# Altium integrated library Notecarrier AF.IntLib: 77 symbols
Pins are listed as number, name and electrical type; pins without a type are passive.

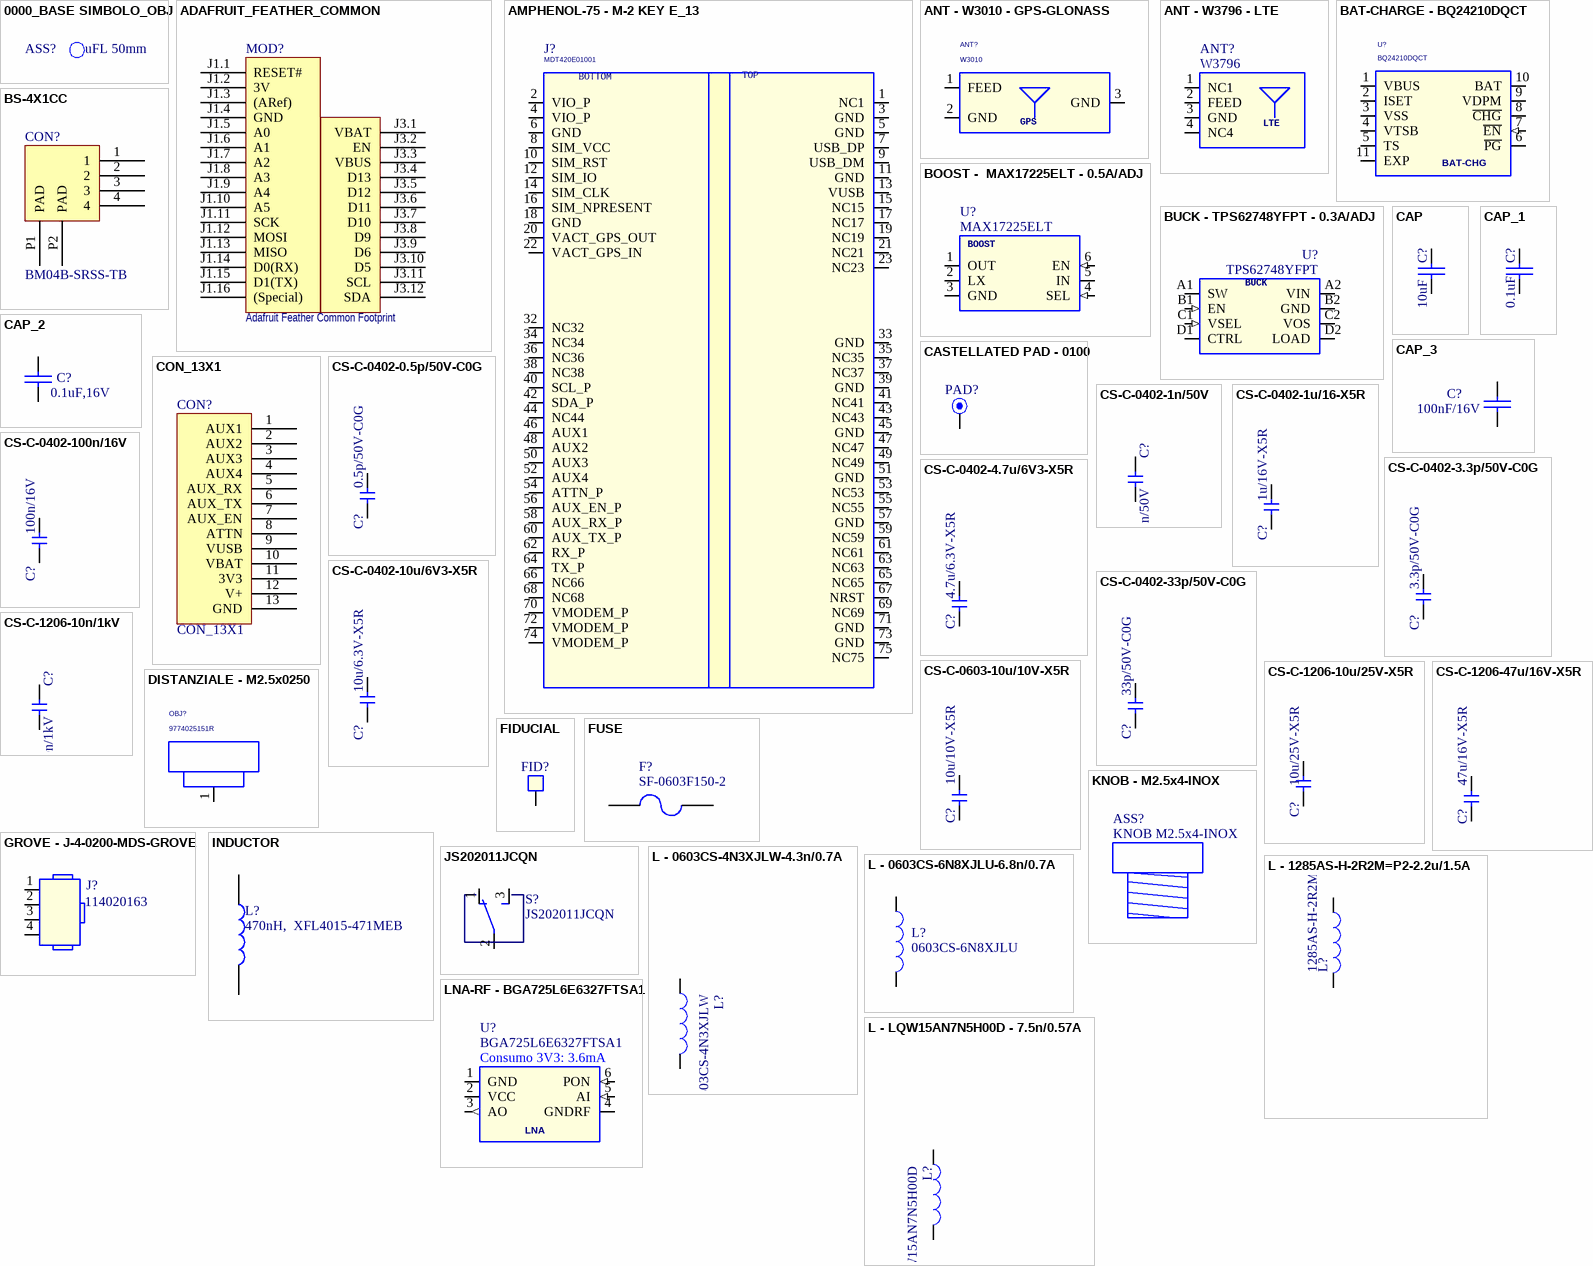
[diagram p0: symbols 0000_BASE SIMBOLO_OBJ to LNA-RF - BGA725L6E6327FTSA1]

## 0000_BASE SIMBOLO_OBJ
designator ASS?, comment uFL 50mm
CAVO COAX uFl-uFl 415-0086-050 HIROSE CINCH CONNECTIVITY SOLUTIONS JOHNSON; ROOM: GPS ANTENNA

## ADAFRUIT_FEATHER_COMMON
designator MOD?, comment Adafruit Feather Common Footprint
Typical Adafruit Feather Pinout
footprint ADAFRUIT_FEATHER_COMMON (Common (Typical) Feather Footprint)
pins: J1.1 RESET#, J1.2 3V, J1.3 (ARef), J1.4 GND, J1.5 A0, J1.6 A1, J1.7 A2, J1.8 A3, J1.9 A4, J1.10 A5, J1.11 SCK, J1.12 MOSI, J1.13 MISO, J1.14 D0(RX), J1.15 D1(TX), J1.16 (Special), J3.1 VBAT, J3.2 EN, J3.3 VBUS, J3.4 D13, J3.5 D12, J3.6 D11, J3.7 D10, J3.8 D9, J3.9 D6, J3.10 D5, J3.11 SCL, J3.12 SDA

## AMPHENOL-75 - M-2 KEY E_13
designator J?, comment MDT420E01001
CONN. M.2 75P M/90° P=0.5 MDT420E01001 AMPHENOL SMT; Famiglia: CONNETTORE; Pkg Type: SMD; Temp Range: -40°..+80°; ROOM: M2 CONNECTOR; PCB Footprint: J-75-0050-MOS-M2-E; Caratteristiche: 75P; Distributor: D-MDT420E01001CT-ND; Price Distributor Cad: 1,21
footprint J-75-0050-MOS-M2
footprint J-75-0050-MOS-M2-E
pins: 1 NC1, 2 VIO_P (power), 3 GND (power), 4 VIO_P (power), 5 GND (power), 6 GND (power), 7 USB_DP, 8 SIM_VCC, 9 USB_DM, 10 SIM_RST, 11 GND (power), 12 SIM_IO, 13 VUSB (power), 14 SIM_CLK, 15 NC15, 16 SIM_NPRESENT, 17 NC17, 18 GND (power), 19 NC19, 20 VACT_GPS_OUT (power), 21 NC21, 22 VACT_GPS_IN, 23 NC23, 32 NC32, 33 GND (power), 34 NC34, 35 NC35, 36 NC36, 37 NC37, 38 NC38, 39 GND (power), 40 SCL_P, 41 NC41, 42 SDA_P, 43 NC43, 44 NC44, 45 GND (power), 46 AUX1, 47 NC47, 48 AUX2, 49 NC49, 50 AUX3, 51 GND (power), 52 AUX4, 53 NC53, 54 ATTN_P, 55 NC55, 56 AUX_EN_P, 57 GND (power), 58 AUX_RX_P, 59 NC59, 60 AUX_TX_P, 61 NC61, 62 RX_P, 63 NC63, 64 TX_P, 65 NC65, 66 NC66, 67 NRST, 68 NC68, 69 NC69, 70 VMODEM_P (power), 71 GND (power), 72 VMODEM_P (power), 73 GND (power), 74 VMODEM_P (power), 75 NC75
text: BOTTOM; TOP

## ANT - W3010 - GPS-GLONASS
designator ANT?, comment W3010
ANTENNA CHIP 1.575GHZ D=3.2X10X2 W3010 PULSE SMT; Caratteristiche: 1.575GHz - GPS/GLONASS; Database: 43082; Famiglia: INDUTTORE; Modello: ANTENNA GPS; Pkg Type: SMD; Temp Range: -40°..+85°; PCB Footprint: ANT-W3010; Distributor: FAE; Price Distributor Cad: 0,53; MPN: W3010
footprint ANT-W3010
pins: 1 FEED, 2 GND (power), 3 GND (power)
text: GPS

## ANT - W3796 - LTE
designator ANT?, comment W3796
ANTENNA CHIP LTE D=40X7X3 W3796 PULSE SMT; Temp Range: -40°..+85°; Pkg Type: SMD; Note: 698MHz-960MHz - 1.427GHz-1.66GHz - 1.695GHz-2.2GHz - 2.3GHz-2.7GHz; Modello: ANTENNA LTE; Famiglia: INDUTTORE; Database: 43080; PCB Footprint: ANT-W3796; Price Distributor Cad: 2,1647; Distributor: FAE; Caratteristiche: LTE
footprint ANT-W3796
pins: 1 NC1, 2 FEED, 3 GND (power), 4 NC4

## BAT-CHARGE - BQ24210DQCT
designator U?, comment BQ24210DQCT
INTEGRATO BQ24210DQCT TEXAS WSON10 SMT; Temp Range: -40°..+85°; Pkg Type: SMD; Note: Vin=20V - Ichg=800mA; Modello: CARICABATTERIA; Caratteristiche: LITIO; PCB Footprint: WSON10-EXP; ROOM: SOLAR BATTERY CHARGER; Price Distributor Cad: 2,72; MPN: BQ24210DQCT; Famiglia: INTEGRATO; Distributor: D-296-28738-1-ND
footprint WSON10-EXP
pins: 1 VBUS (power), 2 ISET, 3 VSS (power), 4 VTSB, 5 TS, 6 ~{PG} (oc), 7 ~{EN} (in), 8 ~{CHG} (oc), 9 VDPM, 10 BAT (power), 11 EXP
text: BAT-CHG

## BOOST -  MAX17225ELT - 0.5A/ADJ
designator U?, comment MAX17225ELT
INTEGRATO MAX17225ELT+T MAXIM W-DFN6 SMT; Caratteristiche: 500mA/ADJ; Modello: BOOST; Database: 42404; Temp Range: -40°..+85°; Pkg Type: SMD; Note: 2MHz; PCB Footprint: WDFN6-0200X0200; Famiglia: INTEGRATO; Price Distributor Cad: 1,3594; Distributor: FAE
footprint WDFN6-0200X0200
pins: 1 OUT (power), 2 LX, 3 GND (power), 4 SEL (in), 5 IN (power), 6 EN (in)

## BS-4X1CC
designator CON?, comment BM04B-SRSS-TB
4 Pin Header; MFR: JST Sales America Inc.; D: CONN HEADER SMD 4POS 1MM; PN: BM04B-SRSS-TB
footprint BM04B-SRSS-TB(LF)(SN) (BM04B-SRSS-TB)
footprint BM04B-SRSS-TB(LF)(SN) - duplicate (BM04B-SRSS-TB)
footprint BM04B-SRSS-TB(LF)(SN) (BM04B-SRSS-TB)
pins: 1, 2, 3, 4, P1 PAD, P2 PAD
2 alternate drawings of the same symbol

## BUCK - TPS62748YFPT - 0.3A/ADJ
designator U?, comment TPS62748YFPT
INTEGRATO TPS62748YFPT TEXAS DSBGA8 SMT; Caratteristiche: 300mA/ADJ; Database: 42813; Modello: BUCK; Pkg Type: SMD; Temp Range: -40°..+85°; PCB Footprint: XFBGA8; Distributor: FAE; Famiglia: INTEGRATO; Price Distributor Cad: 0,6477
footprint XFBGA8
pins: A1 SW, A2 VIN (power), B1 EN (in), B2 GND (power), C1 VSEL (in), C2 VOS, D1 CTRL, D2 LOAD

## CAP
designator C?, comment 10uF
Capacitor; MFR: TDK; PN: C2012JB1C106K085AC; D: Multilayer Ceramic Capacitors MLCC - SMD/SMT 0805 16V 10uF JB 10% T: 0.85mm
footprint 0805_C
footprint 1206_C
footprint 1812_C
footprint 0603_C
footprint 1210_C
pins: 1, 2

## CAP_1
designator C?, comment 0.1uF
Capacitor; MFR: Yageo; D: Multilayer Ceramic Capacitors MLCC - SMD/SMT 0.1 uF 16V 10% Ceramic Capacitor; PN: CC0402KPX5R7BB104
footprint 0805_C
footprint 1206_C
footprint 1812_C
footprint 0603_C
footprint 1210_C
footprint 0402_C
footprint CS-C-0402
pins: 1, 2

## CAP_2
designator C?, comment 0.1uF,16V
Capacitor; MFR: Yageo; PN: CC0402KPX5R7BB104; D: Multilayer Ceramic Capacitors MLCC - SMD/SMT 0.1 uF 16V 10% Ceramic Capacitor
footprint 0805_C
footprint 1206_C
footprint 1812_C
footprint 0603_C
footprint 1210_C
footprint 0402_c
pins: 1, 2

## CAP_3
designator C?, comment 100nF/16V
Capacitor; MFR: Yageo; PN: CC0402KPX5R7BB104; D: Multilayer Ceramic Capacitors MLCC - SMD/SMT 0.1 uF 16V 10% Ceramic Capacitor
footprint 0402_C
footprint 1206_C
footprint 1812_C
footprint 0603_C
footprint CS-C-0402
pins: 1, 2

## CASTELLATED PAD - 0100
designator PAD?, comment TPS  (value not drawn)
CASTELLATED EDGE VIAS; Pkg Type: THT; PCB Footprint: PAD-THT-CAS-0100; Distributor: FAE
footprint PAD-THT-CAS-0100
pins: 1

## CON_13X1
designator CON?
PN: DNM
footprint Model Name (Footprint not found)
footprint BS-9
footprint BS-13
footprint WE13S - 2.54
pins: 1 AUX1, 2 AUX2, 3 AUX3, 4 AUX4, 5 AUX_RX, 6 AUX_TX, 7 AUX_EN, 8 ATTN, 9 VUSB, 10 VBAT, 11 3V3, 12 V+, 13 GND
2 alternate drawings of the same symbol

## CS-C-0402-0.5p/50V-C0G
designator C?, comment 0.5p/50V-C0G
CHIP CAP.CER. 0.5pF 50V ±0.25 C0G 0402 GRM1555C1HR50CA01D MURATA; Temp Range: -55°..+125°; Pkg Type: SMD; Modello: CERAMICO; Famiglia: CONDENSATORE; PCB Footprint: CS-C-0402; Price Distributor Cad: 0,08; Distributor: D-490-5959-1-ND; Caratteristiche: C0G
footprint CS-C-0402
pins: 1, 2

## CS-C-0402-1n/50V
designator C?, comment 1n/50V
CHIP CAP.CER. 1nF 50V 10% X7R 0402; Famiglia: CONDENSATORE; Modello: CERAMICO; Database: 33357; Pkg Type: SMD; PCB Footprint: CS-C-0402; Caratteristiche: X7R; Distributor: FAE; Price Distributor Cad: 0,0069
footprint CS-C-0402
pins: 1, 2

## CS-C-0402-1u/16-X5R
designator C?, comment 1u/16V-X5R
CHIP CAP.CER. 1uF 16V 10% X5R 0402; Pkg Type: SMD; Modello: CERAMICO; Famiglia: CONDENSATORE; Database: 37485; PCB Footprint: CS-C-0402; Price Distributor Cad: 0,0253; Distributor: FAE; Caratteristiche: X5R
footprint CS-C-0402
pins: 1, 2

## CS-C-0402-3.3p/50V-C0G
designator C?, comment 3.3p/50V-C0G
CHIP CAP.CER. 3.3pF 50V 5% C0G 0402; Database: 30030; Famiglia: CONDENSATORE; Modello: CERAMICO; Pkg Type: SMD; Temp Range: -55°..+125°; PCB Footprint: CS-C-0402; Caratteristiche: C0G; Distributor: FAE; Price Distributor Cad: 0,0013
footprint CS-C-0402
pins: 1, 2

## CS-C-0402-4.7u/6V3-X5R
designator C?, comment 4.7u/6.3V-X5R
CHIP CAP.CER. 4.7uF 6.3V 20% X5R 0402; Database: 32468; Famiglia: CONDENSATORE; Modello: CERAMICO; Pkg Type: SMD; PCB Footprint: CS-C-0402; Caratteristiche: X5R; Distributor: FAE; Price Distributor Cad: 0,01
footprint CS-C-0402
pins: 1, 2

## CS-C-0402-10u/6V3-X5R
designator C?, comment 10u/6.3V-X5R
CHIP CAP.CER. 10uF 6.3V 20% X5R 0402; Database: 39310; Famiglia: CONDENSATORE; Modello: CERAMICO; Pkg Type: SMD; Temp Range: -55°..+85°; PCB Footprint: CS-C-0402; Caratteristiche: X5R; Distributor: FAE; Price Distributor Cad: 0,0145
footprint CS-C-0402
pins: 1, 2

## CS-C-0402-33p/50V-C0G
designator C?, comment 33p/50V-C0G
CHIP CAP.CER. 33pF 50V 5% C0G 0402; Database: 43360; Famiglia: CONDENSATORE; Modello: CERAMICO; Pkg Type: SMD; PCB Footprint: CS-C-0402; Caratteristiche: C0G; Distributor: FAE; Price Distributor Cad: 0,005
footprint CS-C-0402
pins: 1, 2

## CS-C-0402-100n/16V
designator C?, comment 100n/16V
CHIP CAP.CER. 100nF 16V 10% X7R 0402; Database: 22452; Famiglia: CONDENSATORE; Modello: CERAMICO; Pkg Type: SMD; PCB Footprint: CS-C-0402; Caratteristiche: X7R; Distributor: FAE; Price Distributor Cad: 0,0021
footprint CS-C-0402
pins: 1, 2

## CS-C-0603-10u/10V-X5R
designator C?, comment 10u/10V-X5R
CHIP CAP.CER. 10uF 10V 10% X5R 0603; Database: 28168; Famiglia: CONDENSATORE; Modello: CERAMICO; Pkg Type: SMD; PCB Footprint: CS-C-0603; Caratteristiche: X5R; Distributor: FAE; Price Distributor Cad: 0,0141
footprint CS-C-0603
pins: 1, 2

## CS-C-1206-10n/1kV
designator C?, comment 10n/1kV
CHIP CAP.CER. 10nF 1000V 10% X7R 1206; Database: 28470; Famiglia: CONDENSATORE; Modello: CERAMICO; Pkg Type: SMD; PCB Footprint: CS-C-1206; Caratteristiche: X7R; Distributor: FAE; Price Distributor Cad: 0,035
footprint CS-C-1206
pins: 1, 2

## CS-C-1206-10u/25V-X5R
designator C?, comment 10u/25V-X5R
CHIP CAP.CER. 10uF 25V X5R 10% 1206; Pkg Type: SMD; Modello: CERAMICO; Famiglia: CONDENSATORE; Database: 21513; PCB Footprint: CS-C-1206; Price Distributor Cad: 0,0195; Distributor: FAE; Caratteristiche: X5R
footprint CS-C-1206
pins: 1, 2

## CS-C-1206-47u/16V-X5R
designator C?, comment 47u/16V-X5R
CHIP CAP.CER. 47uF 16V 20% X5R 1206; Database: 38401; Famiglia: CONDENSATORE; Modello: CERAMICO; Pkg Type: SMD; PCB Footprint: CS-C-1206; Caratteristiche: X5R; Distributor: FAE; Price Distributor Cad: 0,187
footprint CS-C-1206
pins: 1, 2

## DISTANZIALE - M2.5x0250
designator OBJ?, comment 9774025151R
DISTANZ. CIL. METALLO 5.1X2.5 9774025151R W.E SMT; Pkg Type: SMD; Modello: DISTANZIALE; Famiglia: MECCANICA; Database: 44635; Caratteristiche: M2.5; PCB Footprint: DIST-WASMSIM0250; Price Distributor Cad: 0,6225; Distributor: FAE
footprint DIST-WASMSIM0250
pins: 1 (power)

## FIDUCIAL
designator FID?, comment TPS  (value not drawn)
FIDUCIAL; Pkg Type: SMD; Distributor: FAE; PCB Footprint: FIDUCIAL
footprint FIDUCIAL
pins: 1 TP

## FUSE
designator F?, comment SF-0603F150-2
Fuse; MFR: Bourns; D: Surface Mount Fuses 1.5A Fast Acting 0603 SinglFuse; PN: SF-0603F150-2
footprint 0603_F
pins: 1, 2

## GROVE - J-4-0200-MDS-GROVE
designator J?, comment 114020163
CONN. GROVE 4P M/D P=2 114020163 SEEDSTUDIO SMT; Famiglia: CONNETTORE; Pkg Type: SMD; PCB Footprint: J-4-0200-MDS-GROVE; Caratteristiche: 4P; Distributor: D-1597-114020163-ND; MPN: 114020163; Modello: GROVE; Price Distributor Cad: 0,1345
footprint J-4-0200-MDS-GROVE
pins: 1, 2, 3, 4

## INDUCTOR
designator L?, comment 470nH,  XFL4015-471MEB
Inductor; MFR: Coilcraft; D: Fixed Inductors 470nH Shld 11.2A 8.36mOhm AECQ2; PN: XFL4015-471MEB
footprint XFL4015
pins: 1, 2

## JS202011JCQN
designator S?
Slide Switch DPDT Surface Mount; MFR: C&K; D: SWITCH SLIDE DPDT 300MA 6V; PN: JS202011JCQN
footprint JS202011JCQN
pins: 1 O, 2 P, 3 S

## KNOB - M2.5x4-INOX
designator ASS?, comment KNOB M2.5x4-INOX
VITE TCEI 2.5X4 ESAGONO INCASSATO A2 INOX; Pkg Type: THT; Famiglia: MECCANICA; Caratteristiche: M2.5; Price Distributor Cad: 0,06; Modello: KNOB

## L - 0603CS-4N3XJLW-4.3n/0.7A
designator L?, comment 0603CS-4N3XJLW
INDUTTANZA 4.3nH 0.7A 5% 0603 0603CS-4N3XJLW COILCRAFT SMT; Caratteristiche: 700mA; Famiglia: INDUTTORE; Modello: INDUTTANZA RF; Note: 5.9GHz; Pkg Type: SMD; Temp Range: -40°..+125°; PCB Footprint: LS-0603CS; Distributor: M-994-0603CS-4N3XJLW; MPN: 0603CS-4N3XJLW; Price Distributor Cad: 0,766
footprint LS-0603CS
pins: 1 C, 2 A

## L - 0603CS-6N8XJLU-6.8n/0.7A
designator L?, comment 0603CS-6N8XJLU
INDUTTANZA 6.8nH 0.7A 5% 0603 0603CS-6N8XJLU COILCRAFT SMT; Temp Range: -40°..+125°; Pkg Type: SMD; Note: 5.9GHz; Modello: INDUTTANZA RF; Famiglia: INDUTTORE; Database: 43078; Caratteristiche: 700mA; PCB Footprint: LS-0603CS; Price Distributor Cad: 0,54; Distributor: FAE
footprint LS-0603CS
pins: 1 C, 2 A

## L - 1285AS-H-2R2M=P2-2.2u/1.5A
designator L?, comment 1285AS-H-2R2M=P2
INDUTTANZA 2.2uH 1.5A 20% 0806 1285AS-H-2R2M=P2 MURATA SMT; Database: 42807; Famiglia: INDUTTORE; Pkg Type: SMD; Temp Range: -40°..+85°; PCB Footprint: LS-0806; Caratteristiche: 1.5A; Distributor: FAE; Modello: INDUTTANZA; Price Distributor Cad: 0,5228
footprint LS-0806
pins: 1 C, 2 A

## L - LQW15AN7N5H00D - 7.5n/0.57A
designator L?, comment LQW15AN7N5H00D
INDUTTANZA 7.5nH 0.57A 3% A FILO 0402 LQW15AN7N5H00D MURATA SMT; Caratteristiche: 570mA; Database: 43079; Famiglia: INDUTTORE; Note: Non Schermato - 6GHz; Pkg Type: SMD; Temp Range: -55°..+125°; PCB Footprint: LS-0402; Distributor: FAE; Modello: INDUTTANZA; Price Distributor Cad: 0,1005
footprint LS-0402
pins: 1 C, 2 A

## LNA-RF - BGA725L6E6327FTSA1
designator U?, comment BGA725L6E6327FTSA1  Consumo: Consumo 3V3: 3.6mA
INTEGRATO BGA725L6E6327FTSA1 INFINEON TSLP-6 SMT; Temp Range: -40°..+125°; Pkg Type: SMD; Note: VCC=1.5V - 3.6V; Modello: LNA; Database: 43081; Caratteristiche: RF; ROOM: GPS ANTENNA; PCB Footprint: XFDFN6; Price Distributor Cad: 0,2054; Famiglia: INTEGRATO; Distributor: FAE
footprint XFDFN6
pins: 1 GND (power), 2 VCC (power), 3 AO (out), 4 GNDRF (power), 5 AI (in), 6 PON (in)

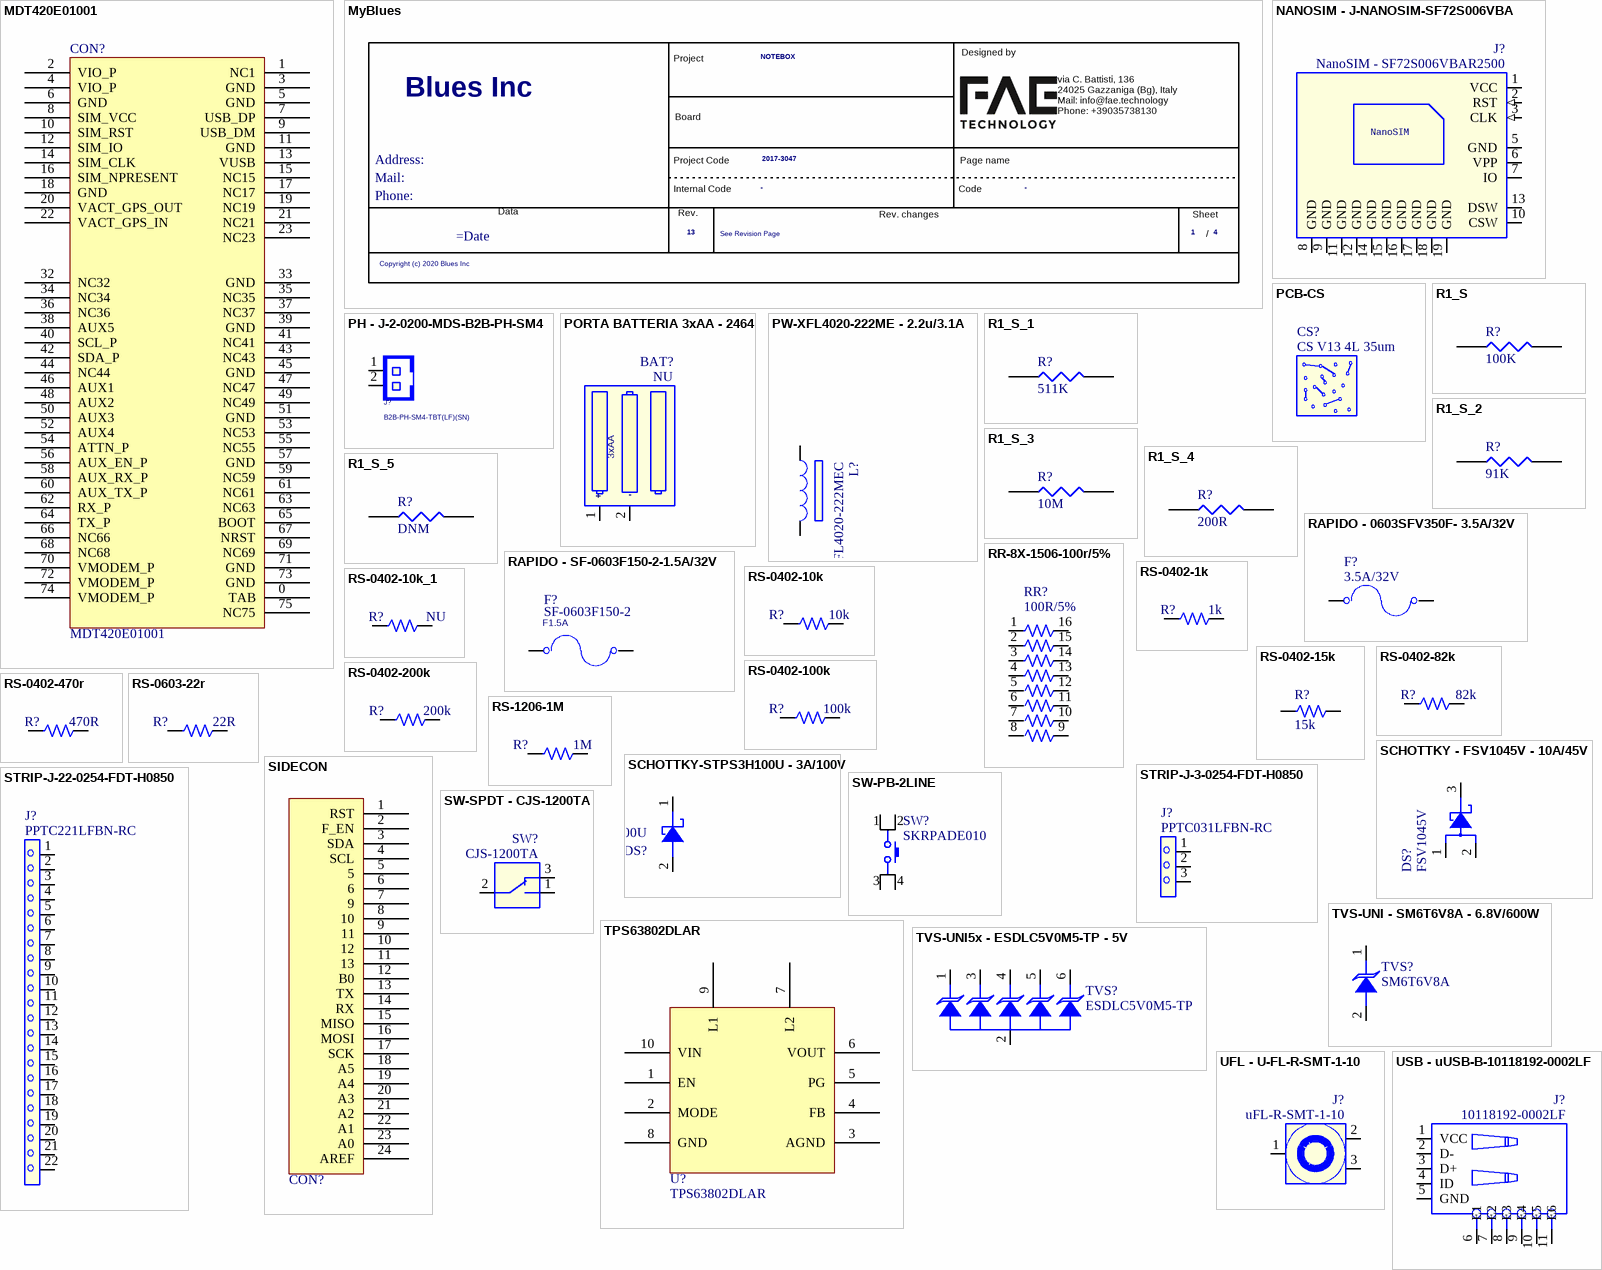
[diagram p1: symbols MDT420E01001 to USB - uUSB-B-10118192-0002LF]

## MDT420E01001
designator CON?
PCI Connector
footprint MDT420E01001
footprint M2 (Footprint not found)
footprint M.2
footprint MDT420E01001
pins: 0 TAB, 1 NC1, 2 VIO_P, 3 GND, 4 VIO_P, 5 GND, 6 GND, 7 USB_DP, 8 SIM_VCC, 9 USB_DM, 10 SIM_RST, 11 GND, 12 SIM_IO, 13 VUSB, 14 SIM_CLK, 15 NC15, 16 SIM_NPRESENT, 17 NC17, 18 GND, 19 NC19, 20 VACT_GPS_OUT, 21 NC21, 22 VACT_GPS_IN, 23 NC23, 32 NC32, 33 GND, 34 NC34, 35 NC35, 36 NC36, 37 NC37, 38 AUX5, 39 GND, 40 SCL_P, 41 NC41, 42 SDA_P, 43 NC43, 44 NC44, 45 GND, 46 AUX1, 47 NC47, 48 AUX2, 49 NC49, 50 AUX3, 51 GND, 52 AUX4, 53 NC53, 54 ATTN_P, 55 NC55, 56 AUX_EN_P, 57 GND, 58 AUX_RX_P, 59 NC59, 60 AUX_TX_P, 61 NC61, 62 RX_P, 63 NC63, 64 TX_P, 65 BOOT, 66 NC66, 67 NRST, 68 NC68, 69 NC69, 70 VMODEM_P, 71 GND, 72 VMODEM_P, 73 GND, 74 VMODEM_P, 75 NC75
2 alternate drawings of the same symbol

## MyBlues
designator *?  Address: Address:  Copyright: Copyright (c) 2020 Blues Inc  CustomerName: Blues Inc  DocumentoRev: See Revision Page  Mail: Mail:  Nome Progetto: NOTEBOX  Page Count: 4  Page Number: 1  Phone: Phone:  Project Code: 2017-3047  Revision: 13  (hidden comment: MyBlues)  (graphical)
FAE RD code: 2017-3047; Customer name: Blues Inc; Customer Code: -; Database: -; Page Modify Date: =Date
text: Designed by; Project; Board; via C. Battisti, 136 / 24025 Gazzaniga (Bg), Italy / Mail: info@fae.technology / Phone: +39035738130; Project Code; Page name; Internal Code; Code; Data; Rev.; Rev. changes; Sheet; /

## NANOSIM - J-NANOSIM-SF72S006VBA
designator J?, comment NanoSIM - SF72S006VBAR2500
CONN. NANOSIM 8P F/90° PUSH-PUSH SF72S006VBAR2500 JAE ELECTRONICS SMT; Pkg Type: SMD; Temp Range: -25°..+85°; Database: 41049; Famiglia: CONNETTORE; ROOM: NANO-SIM; PCB Footprint: J-NANOSIM-SF72S006VBA; Distributor: FAE; Price Distributor Cad: 0,7362; Modello: NanoSIM
footprint J-NANOSIM-SF72S006VBA
pins: 1 VCC (power), 2 RST (in), 3 CLK (in), 5 GND (power), 6 VPP, 7 IO (io), 8 GND (power), 9 GND (power), 10 CSW, 11 GND (power), 12 GND (power), 13 DSW, 14 GND (power), 15 GND (power), 16 GND (power), 17 GND (power), 18 GND (power), 19 GND (power)

## PCB-CS
designator CS?, comment CS V13 4L 35um
C.S. NOTECARRIER-M2-AX V13 (75X65)mm 4L/SO/SR ENIG TG150 sp=1.6mm Cu=35um; Caratteristiche: Nome Schematico; Famiglia: CIRCUITO STAMPATO; Modello: Cliente; Note: Autore Schematico; Distributor: WE-ONLINE; Price Distributor Cad: 0

## PH - J-2-0200-MDS-B2B-PH-SM4
designator J?, comment B2B-PH-SM4-TBT(LF)(SN)
CONN. PH 2P M/D P=2 B2B-PH-SM4-TBT(LF)(SN) JST SMT; Temp Range: -25°..+85°; Pkg Type: SMD; Note: 100V - 2A - AWG32 to AWG24; Famiglia: CONNETTORE; Database: 36983; PCB Footprint: J-2-0200-MDS-B2B-PH-SM4; MPN: B2B-PH-SM4-TBT(LF)(SN); Price Distributor Cad: 0,347; Modello: PH; Distributor: FAE; Caratteristiche: 2P
footprint J-2-0200-MDS-B2B-PH-SM4
pins: 1, 2

## PORTA BATTERIA 3xAA - 2464
designator BAT?, comment NU
PORTA BATTERIA 2464 KEYSTONE; MPN: 2464; Caratteristiche: 3xAA; Database: 45254; Pkg Type: THT; PCB Footprint: BATHLD-2464-NO_MECH; Distributor: FAE; Famiglia: BATTERIA; Modello: PORTA BATTERIA; Price Distributor Cad: 1,0965
footprint BATHLD-2464
footprint BATHLD-2464-NO_MECH
pins: 1 +, 2 -

## PW-XFL4020-222ME - 2.2u/3.1A
designator L?, comment XFL4020-222MEC
INDUTTANZA 2.2 uH 3.1A 20% XFL4020-222MEC COILCRAFT SMT; Database: 42400; Pkg Type: SMD; Temp Range: -40°..+125°; Famiglia: INDUTTORE; Modello: FISSO; PCB Footprint: LS-XFL4020; Distributor: FAE; Price Distributor Cad: 0,7445; Caratteristiche: 3.1A
footprint LS-XFL4020
pins: 1, 2

## R1_S
designator R?, comment 100K
SMD Resistors; MFR: Vishay / Dale; PN: CRCW0402100KFKEDC; D: Thick Film Resistors - SMD 1/16watt 100Kohms 1% Commercial Use
footprint 0805_R
footprint 0603_R
footprint 1206_R
footprint 2512_R
footprint 0402_R
footprint RS-0402
pins: 1, 2

## R1_S_1
designator R?, comment 511K
SMD Resistors; MFR: Yageo; PN: AC0402FR-07511KL; D: Thick Film Resistors - SMD AEC-Q200
footprint 0805_R
footprint 0603_R
footprint 1206_R
footprint 2512_R
footprint 0402_R
footprint RS-0402
pins: 1, 2

## R1_S_2
designator R?, comment 91K
SMD Resistors; MFR: Yageo; PN: RC0402FR-1391KL; D: Thick Film Resistors - SMD 91K ohm 1% 50V General Purpose
footprint 0805_R
footprint 0603_R
footprint 1206_R
footprint 2512_R
footprint 0402_R
footprint RS-0402
pins: 1, 2

## R1_S_3
designator R?, comment 10M
SMD Resistors; MFR: Vishay / Dale; PN: CRCW040210M0FKEDC; D: Thick Film Resistors 1/16watt 10Mohms 1% Commercial Use
footprint 0805_R
footprint 0603_R
footprint 1206_R
footprint 2512_R
footprint 0402_R
footprint RS-0402
pins: 1, 2

## R1_S_4
designator R?, comment 200R
SMD Resistors; MFR: Yageo; PN: RC0402FR-13200RL; D: Thick Film Resistors - SMD 200 ohm 1% 50V General Purpose
footprint 0805_R
footprint 0603_R
footprint 1206_R
footprint 2512_R
footprint 0402_R
footprint 0402_R
pins: 1, 2

## R1_S_5
designator R?, comment DNM
SMD Resistors
footprint 0805_R
footprint 0603_R
footprint 1206_R
footprint 2512_R
footprint 0402_R
pins: 1, 2

## RAPIDO - 0603SFV350F- 3.5A/32V
designator F?, comment 3.5A/32V
FUSIBILE RAPIDO 3.5A 32V 0603 0603SFV350F/32-2 LITTELFUSE SMT; Temp Range: -55°..+125°; Pkg Type: SMD; Database: 40054; PCB Footprint: FS-0603; MPN: 0603SFV350F/32-2; Price Distributor Cad: 0,4034; Modello: RAPIDO; Famiglia: FUSIBILE; Distributor: FAE; Caratteristiche: 3.5A/32V
footprint FS-0603
pins: 1, 2

## RAPIDO - SF-0603F150-2-1.5A/32V
designator F?, comment SF-0603F150-2
FUSIBILE RAPIDO 1.5A 32V 0603 SF-0603F150-2 BOURNS SMT; Caratteristiche: 1.5A/32V; Database: 32505; Pkg Type: SMD; Temp Range: -40°..+105°; PCB Footprint: FS-0603; Distributor: FAE; Famiglia: FUSIBILE; Modello: RAPIDO; Price Distributor Cad: 0,1669; MPN: SF-0603F150-2
footprint FS-0603
pins: 1, 2
text: F1.5A

## RR-8X-1506-100r/5%
designator RR?, comment 100R/5%
RETE RESISTIVA 8R sing. 100R 5% 1506 CONVEX CAY16-101J8LF BOURNS SMT; Temp Range: -55°..+125°; Pkg Type: SMD; Note: 200ppm; Famiglia: RESISTENZA; Database: 40062; Caratteristiche: 8X; PCB Footprint: RR-8X-1506; Price Distributor Cad: 0,0361; Modello: RETE; Distributor: FAE
footprint RR-8X-1506
pins: 1, 2, 3, 4, 5, 6, 7, 8, 9, 10, 11, 12, 13, 14, 15, 16

## RS-0402-1k
designator R?, comment 1k
CHIP RES. 1K 0402 1/16W 1%; Temp Range: -55°..+155°; Pkg Type: SMD; Modello: FISSO; Famiglia: RESISTENZA; Database: 25126; PCB Footprint: RS-0402; Price Distributor Cad: 0,0005; Distributor: FAE; Caratteristiche: 1%
footprint RS-0402
pins: 1, 2

## RS-0402-10k
designator R?, comment 10k
CHIP RES. 10K 0402 1/16W 1%; Pkg Type: SMD; Temp Range: -55°..+125°; Database: 25129; Famiglia: RESISTENZA; Modello: FISSO; PCB Footprint: RS-0402; Distributor: FAE; Price Distributor Cad: 0,0007; Caratteristiche: 1%
footprint RS-0402
pins: 1, 2

## RS-0402-10k_1
designator R?, comment NU
CHIP RES. 10K 0402 1/16W 1%; Pkg Type: SMD; Temp Range: -55°..+125°; Database: 25129; Famiglia: RESISTENZA; Modello: FISSO; PCB Footprint: RS-0402; Distributor: FAE; Price Distributor Cad: 0,0007; Caratteristiche: 1%
footprint RS-0402
pins: 1, 2

## RS-0402-15k
designator R?, comment 15k
CHIP RES. 15K 0402 1/16W 1%; Modello: FISSO; Famiglia: RESISTENZA; Pkg Type: SMD; Temp Range: -55°..+155°; Database: 40387; PCB Footprint: RS-0402; Caratteristiche: 1%; Distributor: FAE; Price Distributor Cad: 0,0004
footprint RS-0402
pins: 1, 2

## RS-0402-82k
designator R?, comment 82k
CHIP RES. 82K 0402 1/16W 1%; Database: 40683; Temp Range: -55°..+155°; Pkg Type: SMD; Famiglia: RESISTENZA; Modello: FISSO; PCB Footprint: RS-0402; Price Distributor Cad: 0,0027; Distributor: FAE; Caratteristiche: 1%
footprint RS-0402
pins: 1, 2

## RS-0402-100k
designator R?, comment 100k
CHIP RES. 100K 0402 1/16W 1%; Database: 25127; Pkg Type: SMD; Famiglia: RESISTENZA; Modello: FISSO; PCB Footprint: RS-0402; Price Distributor Cad: 0,0004; Distributor: FAE; Caratteristiche: 1%
footprint RS-0402
pins: 1, 2

## RS-0402-200k
designator R?, comment 200k
CHIP RES. 200K 0402 1/16W 1%; Pkg Type: SMD; Modello: FISSO; Famiglia: RESISTENZA; Database: 27068; PCB Footprint: RS-0402; Price Distributor Cad: 0,0006; Distributor: FAE; Caratteristiche: 1%
footprint RS-0402
pins: 1, 2

## RS-0402-470r
designator R?, comment 470R
CHIP RES. 470R 0402 1/16W 1%; Database: 25128; Pkg Type: SMD; Famiglia: RESISTENZA; Modello: FISSO; PCB Footprint: RS-0402; Price Distributor Cad: 0,0006; Distributor: FAE; Caratteristiche: 1%
footprint RS-0402
pins: 1, 2

## RS-0603-22r
designator R?, comment 22R
CHIP RES. 22R 0603 1/16W 1%; Modello: FISSO; Famiglia: RESISTENZA; Database: 20385; Pkg Type: SMD; PCB Footprint: RS-0603; Caratteristiche: 1%; Price Distributor Cad: 0,0005; Distributor: FAE
footprint RS-0603
pins: 1, 2

## RS-1206-1M
designator R?, comment 1M
CHIP RES. 1M 1206 1/4W 1%; Database: 39104; Pkg Type: SMD; Modello: FISSO; Famiglia: RESISTENZA; PCB Footprint: RS-1206; ROOM: USB; Price Distributor Cad: 0,0011; Distributor: FAE; Caratteristiche: 1%
footprint RS-1206
pins: 1, 2

## SCHOTTKY - FSV1045V - 10A/45V
designator DS?, comment FSV1045V
DIODO SCHOTTKY 10A 45V FSV1045V TO277-3 SMT; Caratteristiche: 10A/45V; Database: 42269; Pkg Type: SMD; Temp Range: -55°..+150°; Distributor: FAE; Famiglia: DIODO; Modello: SCHOTTKY; Price Distributor Cad: 0,629; MPN: FSV1045V; PCB Footprint: TO277-3
footprint TO277-3
pins: 1 A1, 2 A2, 3 C

## SCHOTTKY-STPS3H100U - 3A/100V
designator DS?, comment STPS3H100U
DIODO SCHOTTKY 3A 100V STPS3H100U SMB SMT; Caratteristiche: 3A/100V; Database: 40665; Pkg Type: SMD; ROOM: SOLAR BATTERY CHARGER; Distributor: FAE; Famiglia: DIODO; Modello: SCHOTTKY; Price Distributor Cad: 0,336; MPN: STPS3H100U; PCB Footprint: SMB
footprint SMB
pins: 1 C, 2 A

## SIDECON
designator CON?, comment 12X1  (value not drawn)
PN: DNM
footprint SIDE_CON
footprint BS-24 (SIDE TAB)
footprint WE24S - 2.54
pins: 1 RST, 2 F_EN, 3 SDA, 4 SCL, 5, 6, 7 9, 8 10, 9 11, 10 12, 11 13, 12 B0, 13 TX, 14 RX, 15 MISO, 16 MOSI, 17 SCK, 18 A5, 19 A4, 20 A3, 21 A2, 22 A1, 23 A0, 24 AREF
2 alternate drawings of the same symbol

## STRIP-J-3-0254-FDT-H0850
designator J?, comment PPTC031LFBN-RC
STRIP 3P F/D P=2.54 H=8.5 PPTC031LFBN-RC SULLINS; Temp Range: -40°..+105°; Pkg Type: THT; Note: Male PIN Square 0.64; Famiglia: CONNETTORE; Caratteristiche: H=8.5mm; PCB Footprint: J-3-0254-FDT-H0850; Price Distributor Cad: 0,39; Modello: STRIP; MPN: PPTC031LFBN-RC; Distributor: D-S7001-ND
footprint J-3-0254-FDT-H0850
pins: 1, 2, 3

## STRIP-J-22-0254-FDT-H0850
designator J?, comment PPTC221LFBN-RC
STRIP 22P F/D P=2.54 H=8.5 PPTC221LFBN-RC SULLINS; Temp Range: -40°..+105°; Pkg Type: THT; Note: Male PIN Square 0.64; Famiglia: CONNETTORE; Caratteristiche: H=8.5mm; PCB Footprint: J-22-0254-FDT-H0850_EDGE; Price Distributor Cad: 1,16; Modello: STRIP; MPN: PPTC221LFBN-RC; Distributor: D-S7020-ND
footprint J-22-0254-FDT-H0850
footprint J-22-0254-FDT-H0850_EDGE
pins: 1, 2, 3, 4, 5, 6, 7, 8, 9, 10, 11, 12, 13, 14, 15, 16, 17, 18, 19, 20, 21, 22

## SW-PB-2LINE
designator SW?, comment SKRPADE010
Push Button Switch PCB Mountable Tactile type; MFR: Alps Alpine; D: Tactile Switches 4.2x3.2x2.5mm 408gf; PN: SKRPADE010
footprint SKRPADE010
pins: 1, 2, 3, 4

## SW-SPDT - CJS-1200TA
designator SW?, comment CJS-1200TA
INTERR. SLITTA ON-ON DA C.S. CJS-1200TA NIDEC COPAL ELECTRONICS SMT; Temp Range: -40°..+85°; Pkg Type: SMD; Note: SPDT - 100mA/6V; Modello: MECCANICO; Famiglia: SWITCH; Database: 43927; Caratteristiche: SPDT; PCB Footprint: SW-CJS1200TA; Price Distributor Cad: 0,4858; Distributor: FAE
footprint SW-CJS1200TA
pins: 1, 2, 3

## TPS63802DLAR
designator U?
Switching Voltage Regulators High current, high efficiency single inductor buck-boost; MFR: Texas Instruments; D: Switching Voltage Regulators High current, high efficiency single inductor buck-boost converter 10-VSON-HR -40 to 125; PN: TPS63802DLAR
footprint TPS63802DLAR
pins: 1 EN, 2 MODE, 3 AGND, 4 FB, 5 PG, 6 VOUT, 7 L2, 8 GND, 9 L1, 10 VIN

## TVS-UNI5x - ESDLC5V0M5-TP - 5V
designator TVS?, comment ESDLC5V0M5-TP
DIODO TVS TRANSIL UNIDIR. 20W 5V ESDLC5V0M5-TP SOT563 SMT; Temp Range: -65°..+150°; Pkg Type: SMD; Note: Cmax=10pF - SIM; Famiglia: PROTEZIONE; Database: 44643; Caratteristiche: 1.6A/5V/20W; PCB Footprint: SOT666; Price Distributor Cad: 0,37; Modello: TVS; Distributor: FAE
footprint SOT666
pins: 1 C1, 2 A2, 3 C3, 4 C4, 5 A5, 6 C6

## TVS-UNI - SM6T6V8A - 6.8V/600W
designator TVS?, comment SM6T6V8A
DIODO TVS TRANSIL UNIDIR. 600W 6.8V SM6T6V8A SMB SMT; Pkg Type: SMD; Database: 14165; Note: Unidirezionale; Caratteristiche: 57A/6.8V/600W; Famiglia: PROTEZIONE; ROOM: INPUT; Distributor: FAE; Price Distributor Cad: 0,0348; Modello: TVS; PCB Footprint: SMB
footprint SMB
pins: 1 C, 2 A

## UFL - U-FL-R-SMT-1-10
designator J?, comment uFL-R-SMT-1-10
CONN. RF M U.FL-R-SMT-1(10) HIROSE SMT; Pkg Type: SMD; Temp Range: -40°..+90°; Database: 28096; Famiglia: CONNETTORE; Note: 50ohm; Modello: UFL; PCB Footprint: J-3-MDS-UFL; Distributor: FAE; Price Distributor Cad: 0,115; Caratteristiche: RF
footprint J-3-MDS-UFL
pins: 1, 2, 3

## USB - uUSB-B-10118192-0002LF
designator J?, comment 10118192-0002LF
CONN. USB F/90° TIPO MICRO-B C.S. 10118192-0002LF FCI SMT; Famiglia: CONNETTORE; Modello: MICROUSB; Note: Full SMD, no FLANGE; Pkg Type: SMD; Temp Range: -30°..+80°; PCB Footprint: J-5-0065-FOS-USB10118192-NOF; Distributor: D-609-5379-1-ND; MPN: 10118192-0002LF; Price Distributor Cad: 0,42
footprint J-5-0065-FOS-uUSB10118192-NOFLG
footprint J-5-0065-FOS-USB10118192-NOF
footprint J-5-0065-FOS-MICROUSB10118192
pins: 1 VCC (power), 2 D- (io), 3 D+ (io), 4 ID, 5 GND (power), 6 E1, 7 E2, 8 E3, 9 E4, 10 E5, 11 E6